# Altium schematic symbol library SPST-NO-4PIN.Schlib: 1 symbol
Pins are listed as number, name and electrical type; pins without a type are passive.

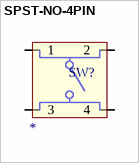
[diagram p0: symbol SPST-NO-4PIN]

## SPST-NO-4PIN
designator SW?  (value not drawn)
Switch; Package: *; Value: *
pins: 1, 2, 3, 4